# EAGLE library part RM-92A (library lz-shield)
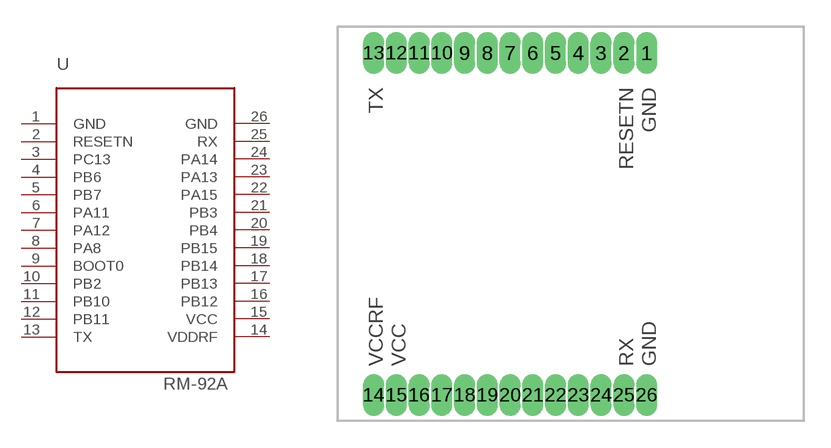
[diagram p7: symbol with the pads of RM-92A; footprint RM-92A]

Designator prefix -

## RM-92A  [RM-92A]
1  GND  pwr
2  RESETN  in
3  PC13
4  PB6
5  PB7
6  PA11
7  PA12
8  PA8
9  BOOT0
10  PB2
11  PB10
12  PB11
13  TX  out
14  VDDRF  pwr
15  VCC  pwr
16  PB12
17  PB13
18  PB14
19  PB15
20  PB4
21  PB3
22  PA15
23  PA13
24  PA14
25  RX  in
26  GND  pwr

## Footprint RM-92A (pad centres in mm)
drill 0.65 pad 0.8 long: 1 4.24,9.55; 2 2.97,9.55; 3 1.7,9.55; 4 0.43,9.55; 5 -0.84,9.55; 6 -2.11,9.55; 7 -3.38,9.55; 8 -4.65,9.55; 9 -5.92,9.55; 10 -7.19,9.55; 11 -8.46,9.55; 12 -9.73,9.55; 13 -11,9.55; 14 -11,-9.55; 15 -9.73,-9.55; 16 -8.46,-9.55; 17 -7.19,-9.55; 18 -5.92,-9.55; 19 -4.65,-9.55; 20 -3.38,-9.55; 21 -2.11,-9.55; 22 -0.84,-9.55; 23 0.43,-9.55; 24 1.7,-9.55; 25 2.97,-9.55; 26 4.24,-9.55